# EAGLE library part 431153015826 (library EAGLE-TACT_SWITCHES-rev17c)
5x5 mm J-Bend SMD with ground terminal WS-TASV <http://katalog.we-online.de/media/images/v2/Family_WS-TASV_Normal_SMD_J-Bend_4311x30xx8x6_pf2.jpg> Details see: http://katalog.we-online.de/em/datasheet/4311x30158x6.pdf 2015 (C) Wurth Elektronik
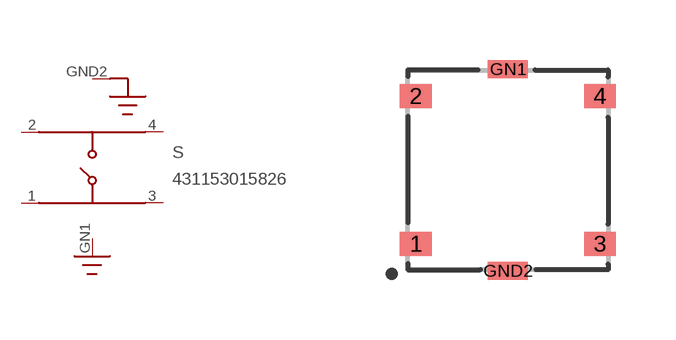
[diagram p90: symbol with the pads of 431153015826; footprint 431153015826]

Designator prefix S

## 431153015826  [431153015826]
1  1  pas
2  2  pas
3  3  pas
4  4  pas
GN1  6  pas
GND2  5  pas

## Footprint 431153015826 (pad centres in mm)
WS-TSS-5x5 mm J-Bend SMD Tact Switch with ground terminal, 4 pins
smd 0.8 x 0.6: 1 -2.3,-1.85; 2 -2.3,1.85; 3 2.3,-1.85; 4 2.3,1.85
smd 1 x 0.45: GN1 0,2.525; GND2 0,-2.525